# Altium schematic symbol library Kubikova ultra knihovna.SchLib: 1 symbol
Pins are listed as number, name and electrical type; pins without a type are passive.

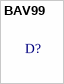
[diagram p0: symbol BAV99]

## BAV99
designator D?  (value not drawn)